# EAGLE library part MAX14870_BREAKOUT (library GTOR - Breakout Boards)
MAX14870 Single Brushed DC Motor Driver Carrier https://www.pololu.com/product/2961/resources
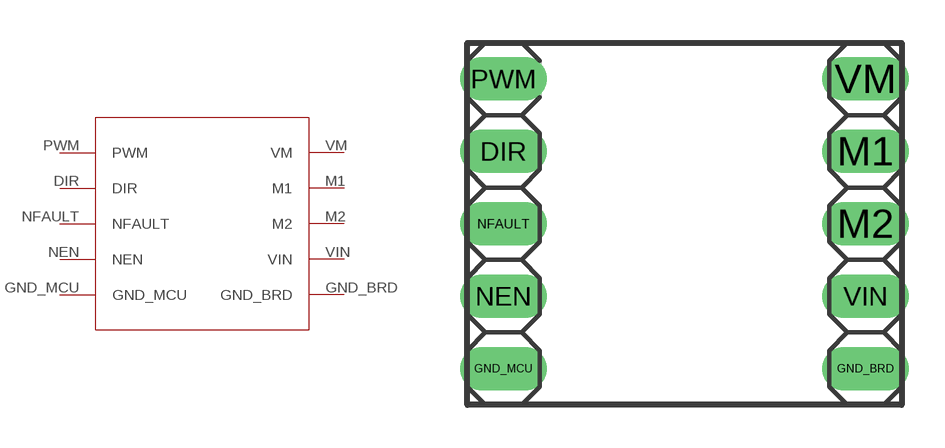
[diagram p0: symbol with the pads of MAX14870_BREAKOUT; footprint MAX14870_BREAKOUT]

Designator prefix -

## MAX14870_BREAKOUT  [MAX14870_BREAKOUT]
DIR  DIR  in
GND_BRD  GND_BRD  pwr
GND_MCU  GND_MCU  pwr
M1  M1  out
M2  M2  out
NEN  NEN  in
NFAULT  NFAULT  in
PWM  PWM  in
VIN  VIN  pwr
VM  VM  pwr

## Footprint MAX14870_BREAKOUT (pad centres in mm)
drill 1.016 long: DIR 1.27,8.89; GND_BRD 13.97,1.27; GND_MCU 1.27,1.27; M1 13.97,8.89; M2 13.97,6.35; NEN 1.27,3.81; NFAULT 1.27,6.35; PWM 1.27,11.43; VIN 13.97,3.81; VM 13.97,11.43